# Altium schematic symbol library SCH - MCU - NUVOTON - NUVOTON NUC140VE3CN.SchLib: 1 symbol
Pins are listed as number, name and electrical type; pins without a type are passive.

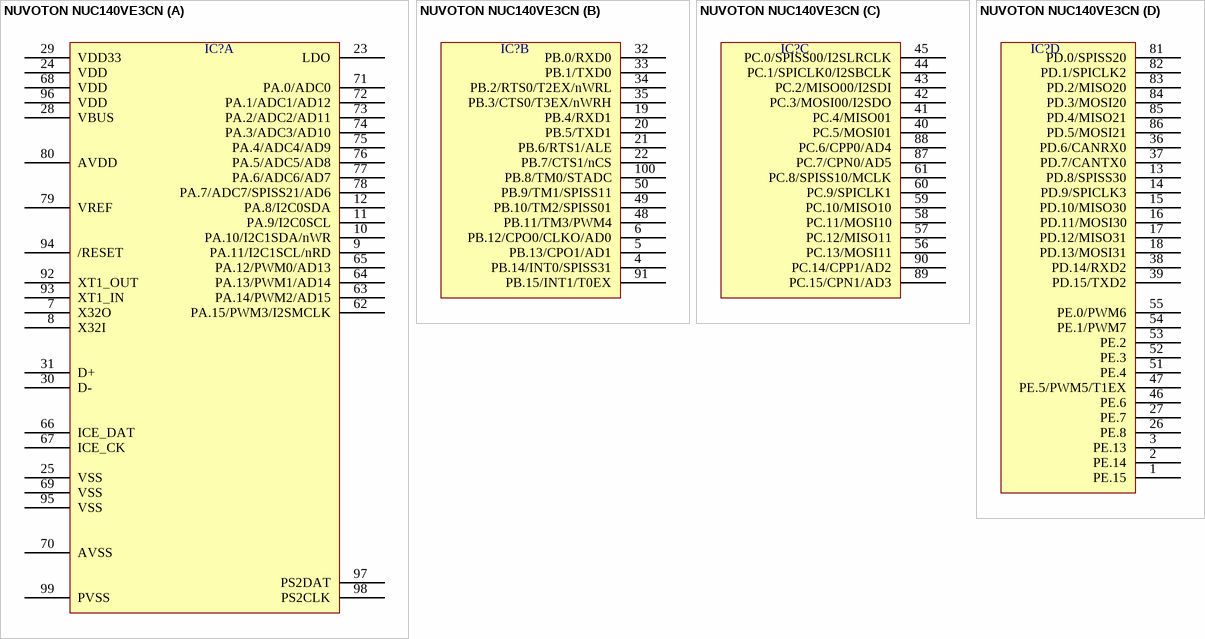
[diagram p0: symbol NUVOTON NUC140VE3CN]

## NUVOTON NUC140VE3CN
designator IC?  (value not drawn)
part A pins: 7 X32O, 8 X32I, 9 PA.11/I2C1SCL/nRD, 10 PA.10/I2C1SDA/nWR, 11 PA.9/I2C0SCL, 12 PA.8/I2C0SDA, 23 LDO, 24 VDD, 25 VSS, 28 VBUS, 29 VDD33, 30 D-, 31 D+, 62 PA.15/PWM3/I2SMCLK, 63 PA.14/PWM2/AD15, 64 PA.13/PWM1/AD14, 65 PA.12/PWM0/AD13, 66 ICE_DAT, 67 ICE_CK, 68 VDD, 69 VSS, 70 AVSS, 71 PA.0/ADC0, 72 PA.1/ADC1/AD12, 73 PA.2/ADC2/AD11, 74 PA.3/ADC3/AD10, 75 PA.4/ADC4/AD9, 76 PA.5/ADC5/AD8, 77 PA.6/ADC6/AD7, 78 PA.7/ADC7/SPISS21/AD6, 79 VREF, 80 AVDD, 92 XT1_OUT, 93 XT1_IN, 94 /RESET, 95 VSS, 96 VDD, 97 PS2DAT, 98 PS2CLK, 99 PVSS
part B pins: 4 PB.14/INT0/SPISS31, 5 PB.13/CPO1/AD1, 6 PB.12/CPO0/CLKO/AD0, 19 PB.4/RXD1, 20 PB.5/TXD1, 21 PB.6/RTS1/ALE, 22 PB.7/CTS1/nCS, 32 PB.0/RXD0, 33 PB.1/TXD0, 34 PB.2/RTS0/T2EX/nWRL, 35 PB.3/CTS0/T3EX/nWRH, 48 PB.11/TM3/PWM4, 49 PB.10/TM2/SPISS01, 50 PB.9/TM1/SPISS11, 91 PB.15/INT1/T0EX, 100 PB.8/TM0/STADC
part C pins: 40 PC.5/MOSI01, 41 PC.4/MISO01, 42 PC.3/MOSI00/I2SDO, 43 PC.2/MISO00/I2SDI, 44 PC.1/SPICLK0/I2SBCLK, 45 PC.0/SPISS00/I2SLRCLK, 56 PC.13/MOSI11, 57 PC.12/MISO11, 58 PC.11/MOSI10, 59 PC.10/MISO10, 60 PC.9/SPICLK1, 61 PC.8/SPISS10/MCLK, 87 PC.7/CPN0/AD5, 88 PC.6/CPP0/AD4, 89 PC.15/CPN1/AD3, 90 PC.14/CPP1/AD2
part D pins: 1 PE.15, 2 PE.14, 3 PE.13, 13 PD.8/SPISS30, 14 PD.9/SPICLK3, 15 PD.10/MISO30, 16 PD.11/MOSI30, 17 PD.12/MISO31, 18 PD.13/MOSI31, 26 PE.8, 27 PE.7, 36 PD.6/CANRX0, 37 PD.7/CANTX0, 38 PD.14/RXD2, 39 PD.15/TXD2, 46 PE.6, 47 PE.5/PWM5/T1EX, 51 PE.4, 52 PE.3, 53 PE.2, 54 PE.1/PWM7, 55 PE.0/PWM6, 81 PD.0/SPISS20, 82 PD.1/SPICLK2, 83 PD.2/MISO20, 84 PD.3/MOSI20, 85 PD.4/MISO21, 86 PD.5/MOSI21